# Altium integrated library Silicon Labs Capacitive Touch Sense MCUs.IntLib: 96 symbols (part 2 of 5)
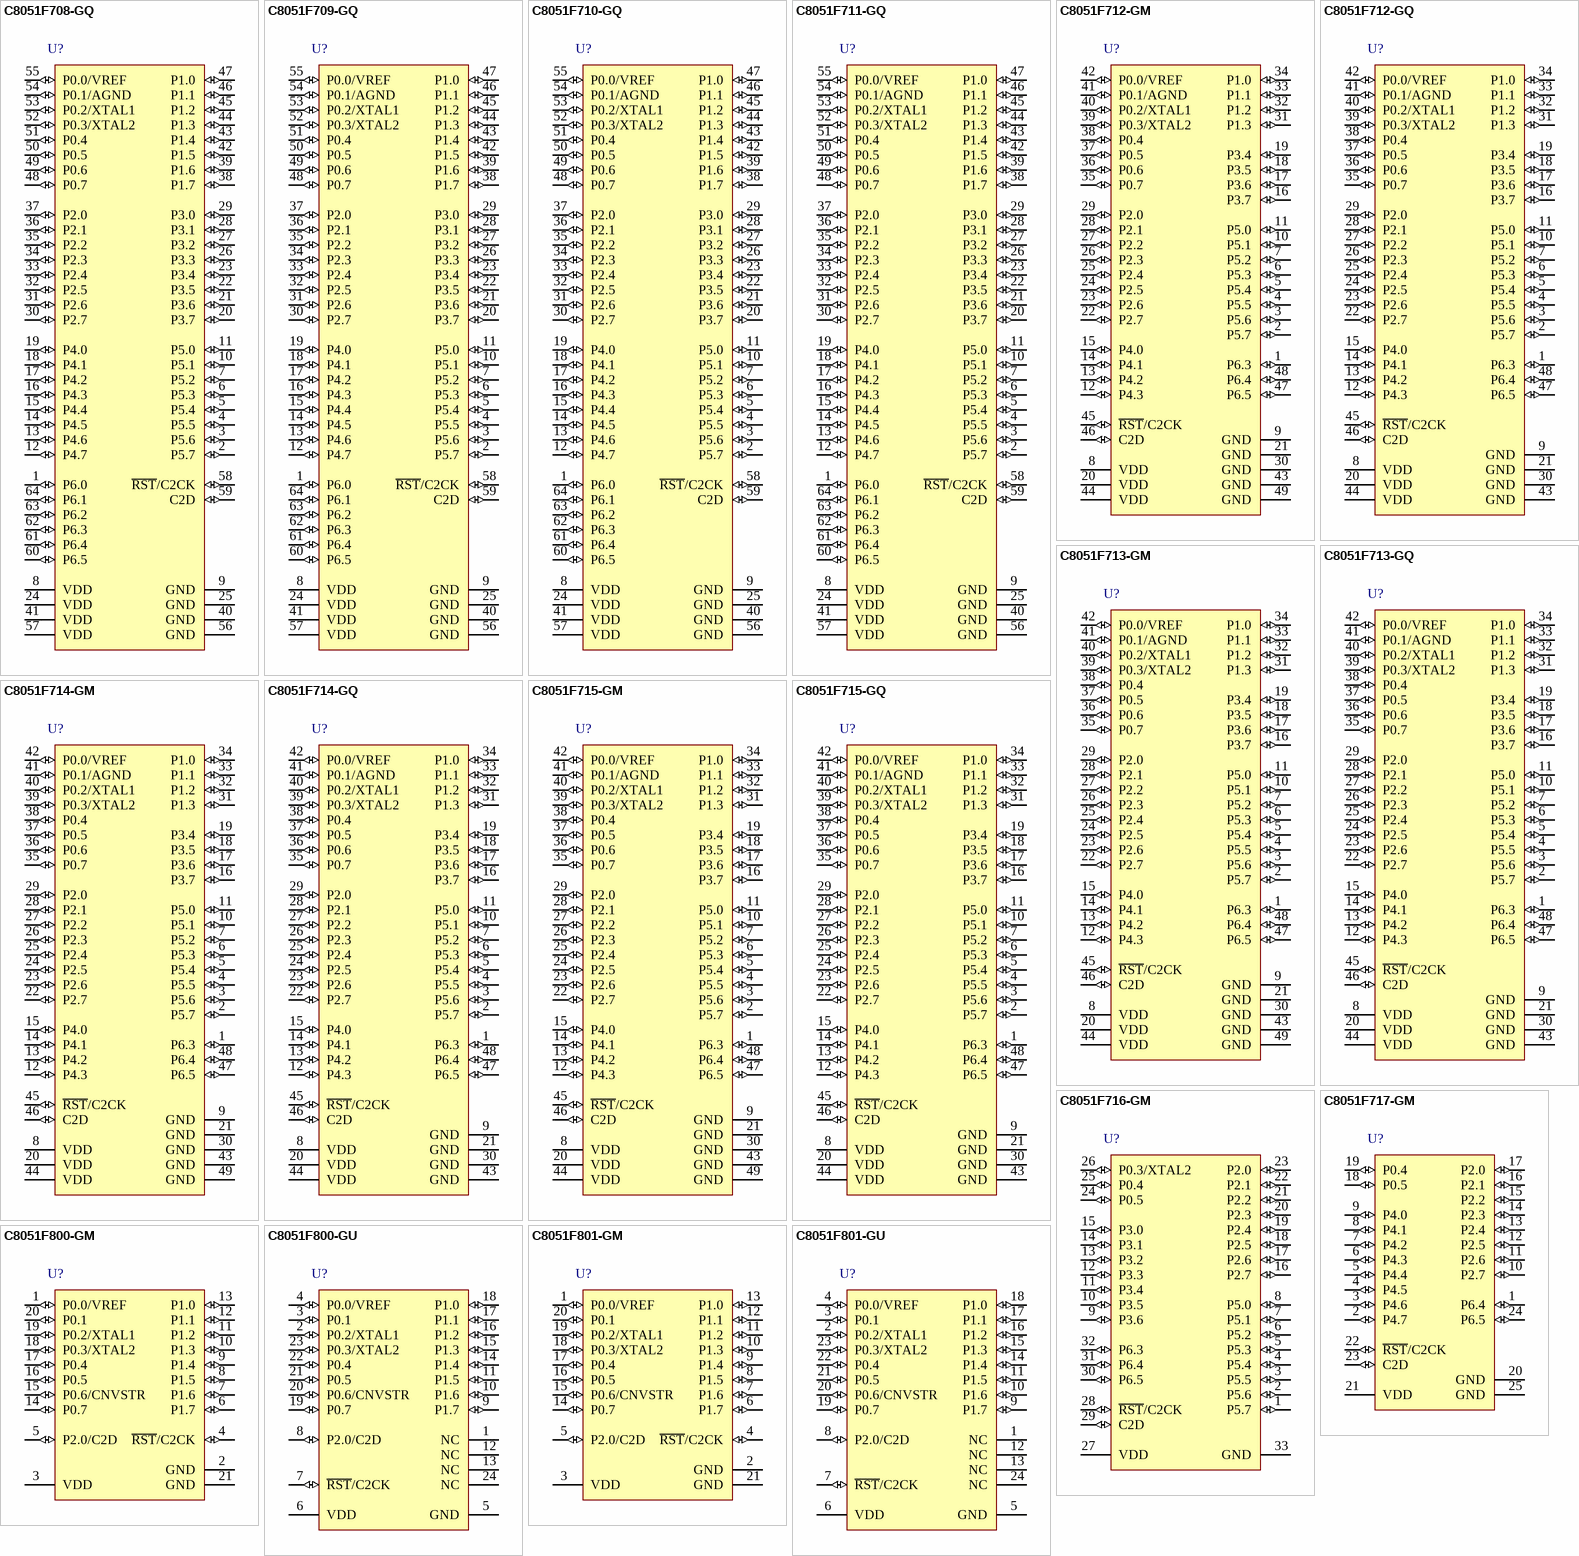
[diagram p7: symbols C8051F708-GQ to C8051F801-GU]

## C8051F710-GQ
designator U?
Mixed Signal ISP Flash MCU Family, 25 MHz, 0.5 kB RAM, 8 kB Flash, -40 to 85 degC, 64-pin QFP; Manufacturer: Silicon Labs; PartNumber: C8051F710-GQ; ADC 1: 10-bit, 16-ch., 500 ksps; Comparators: 1; Debug Interface: C2; Dig I/O Pins: 54; Flash: 8 kB; Internal Osc. Accuracy: +/-2%; MCU Core: 8051; MHz: 25; PCA Channels: 3; RAM: 0.5 kB; Temp Sensor: TRUE; Timers (16-bit): 4; Sub-Family: Capacitive Touch Sense MCUs; DatasheetVersion: Rev. 1.0; PackageReference: TQFP-64; PackageDescription: 64-Pin Thin Quad Flat Package, Body 10 x 10 mm, Pitch 0.5 mm; Supplier 1: Digi-Key; Supplier Part Number 1: 336-1641-ND; Supplier 2: Mouser; Supplier Part Number 2: 634-C8051F710-GQ; Mounting Technology: Surface Mount; Code_JEDEC: MS-026; Code_IPC: J-STD-020; ComponentLink1Description: Manufacturer URL; ComponentLink1URL: http://www.silabs.com/; ComponentLink2Description: Datasheet; ComponentLink2URL: http://www.silabs.com/Support Documents/TechnicalDocs/C8051F70x.pdf; ComponentLink3Description: Package Specification; ComponentLink3URL: http://www.silabs.com/Support%20Documents/TechnicalDocs/C8051F70x.pdf
footprint SLAB-TQFP-64_N (QFP, 64-Leads, Body 10x10mm, Pitch 0.5mm, IPC Medium Density)
footprint SLAB-TQFP-64_L (QFP, 64-Leads, Body 10x10mm, Pitch 0.5mm, IPC High Density)
footprint SLAB-TQFP-64_M (QFP, 64-Leads, Body 10x10mm, Pitch 0.5mm, IPC Low Density)
pins: 1 P6.0 (io) "Port 6.0. CS0 input pin 33.", 2 P5.7 (io) "Port 5.7. CS0 input pin 32.", 3 P5.6 (io) "Port 5.6. CS0 input pin 31.", 4 P5.5 (io) "Port 5.5. CS0 input pin 30.", 5 P5.4 (io) "Port 5.4. CS0 input pin 29.", 6 P5.3 (io) "Port 5.3. CS0 input pin 28.", 7 P5.2 (io) "Port 5.2. CS0 input pin 27", 8 VDD (power) "Power Supply Voltage", 9 GND (power) "Ground.", 10 P5.1 (io) "Port 5.0. CS0 input pin 26.", 11 P5.0 (io) "Port 5.0. CS0 input pin 25.", 12 P4.7 (io) "Port 4.7. CS0 input pin 24.", 13 P4.6 (io) "Port 4.6. CS0 input pin 23.", 14 P4.5 (io) "Port 4.5. CS0 input pin 22.", 15 P4.4 (io) "Port 4.4. CS0 input pin 21.", 16 P4.3 (io) "Port 4.3. CS0 input pin 20.", 17 P4.2 (io) "Port 4.2. CS0 input pin 19.", 18 P4.1 (io) "Port 4.1. CS0 input pin 18.", 19 P4.0 (io) "Port 4.0. CS0 input pin 17.", 20 P3.7 (io) "Port 3.7. CS0 input pin 16.", 21 P3.6 (io) "Port 3.6. CS0 input pin 15.", 22 P3.5 (io) "Port 3.5. CS0 input pin 14.", 23 P3.4 (io) "Port 3.4. CS0 input pin 13.", 24 VDD (power) "Power Supply Voltage", 25 GND (power) "Ground.", 26 P3.3 (io) "Port 3.3. CS0 input pin 12.", 27 P3.2 (io) "Port 3.2. CS0 input pin 11.", 28 P3.1 (io) "Port 3.1. CS0 input pin 10.", 29 P3.0 (io) "Port 3.0. CS0 input pin 9.", 30 P2.7 (io) "Port 2.7. CS0 input pin 8.", 31 P2.6 (io) "Port 2.6. CS0 input pin 7.", 32 P2.5 (io) "Port 2.5. CS0 input pin 6.", 33 P2.4 (io) "Port 2.4. CS0 input pin 5.", 34 P2.3 (io) "Port 2.3. CS0 input pin 4.", 35 P2.2 (io) "Port 2.2. CS0 input pin 3.", 36 P2.1 (io) "Port 2.1. CS0 input pin 2.", 37 P2.0 (io) "Port 2.0. CS0 input pin 1.", 38 P1.7 (io) "Port 1.7. ADC0 Input.", 39 P1.6 (io) "Port 1.6. ADC0 Input.", 40 GND (power) "Ground.", 41 VDD (power) "Power Supply Voltage", 42 P1.5 (io) "Port 1.5. ADC0 Input.", 43 P1.4 (io) "Port 1.4. ADC0 Input.", 44 P1.3 (io) "Port 1.3. ADC0 Input.", 45 P1.2 (io) "Port 1.2. ADC0 Input.", 46 P1.1 (io) "Port 1.1. ADC0 Input.", 47 P1.0 (io) "Port 1.0. ADC0 Input.", 48 P0.7 (io) "Port 0.7. ADC0 Input.", 49 P0.6 (io) "Port 0.6. ADC0 Input.", 50 P0.5 (io) "Port 0.5. ADC0 Input.", 51 P0.4 (io) "Port 0.4. ADC0 Input.", 52 P0.3/XTAL2 (io), 53 P0.2/XTAL1 (io), 54 P0.1/AGND (io), 55 P0.0/VREF (io), 56 GND (power) "Ground.", 57 VDD (power) "Power Supply Voltage", 58 ~{RST}/C2CK (io), 59 C2D (io) "Bi-directional data signal for the C2 Debug Interface.", 60 P6.5 (io) "Port 6.5. CS0 input pin 38.", 61 P6.4 (io) "Port 6.4. CS0 input pin 37.", 62 P6.3 (io) "Port 6.3. CS0 input pin 36.", 63 P6.2 (io) "Port 6.2. CS0 input pin 35.", 64 P6.1 (io) "Port 6.1. CS0 input pin 34."

## C8051F711-GQ
designator U?
Mixed Signal ISP Flash MCU Family, 25 MHz, 0.5 kB RAM, 8 kB Flash, -40 to 85 degC, 64-pin QFP; Manufacturer: Silicon Labs; PartNumber: C8051F711-GQ; Comparators: 1; Debug Interface: C2; Dig I/O Pins: 54; Flash: 8 kB; Internal Osc. Accuracy: +/-2%; MCU Core: 8051; MHz: 25; PCA Channels: 3; RAM: 0.5 kB; Temp Sensor: FALSE; Timers (16-bit): 4; Sub-Family: Capacitive Touch Sense MCUs; DatasheetVersion: Rev. 1.0; PackageReference: TQFP-64; PackageDescription: 64-Pin Thin Quad Flat Package, Body 10 x 10 mm, Pitch 0.5 mm; Supplier 1: Digi-Key; Supplier Part Number 1: 336-1642-ND; Supplier 2: Mouser; Supplier Part Number 2: 634-C8051F711-GQ; Mounting Technology: Surface Mount; Code_JEDEC: MS-026; Code_IPC: J-STD-020; ComponentLink1Description: Manufacturer URL; ComponentLink1URL: http://www.silabs.com/; ComponentLink2Description: Datasheet; ComponentLink2URL: http://www.silabs.com/Support Documents/TechnicalDocs/C8051F70x.pdf; ComponentLink3Description: Package Specification; ComponentLink3URL: http://www.silabs.com/Support%20Documents/TechnicalDocs/C8051F70x.pdf
footprint SLAB-TQFP-64_N (QFP, 64-Leads, Body 10x10mm, Pitch 0.5mm, IPC Medium Density)
footprint SLAB-TQFP-64_L (QFP, 64-Leads, Body 10x10mm, Pitch 0.5mm, IPC High Density)
footprint SLAB-TQFP-64_M (QFP, 64-Leads, Body 10x10mm, Pitch 0.5mm, IPC Low Density)
pins: 1 P6.0 (io) "Port 6.0. CS0 input pin 33.", 2 P5.7 (io) "Port 5.7. CS0 input pin 32.", 3 P5.6 (io) "Port 5.6. CS0 input pin 31.", 4 P5.5 (io) "Port 5.5. CS0 input pin 30.", 5 P5.4 (io) "Port 5.4. CS0 input pin 29.", 6 P5.3 (io) "Port 5.3. CS0 input pin 28.", 7 P5.2 (io) "Port 5.2. CS0 input pin 27", 8 VDD (power) "Power Supply Voltage", 9 GND (power) "Ground.", 10 P5.1 (io) "Port 5.0. CS0 input pin 26.", 11 P5.0 (io) "Port 5.0. CS0 input pin 25.", 12 P4.7 (io) "Port 4.7. CS0 input pin 24.", 13 P4.6 (io) "Port 4.6. CS0 input pin 23.", 14 P4.5 (io) "Port 4.5. CS0 input pin 22.", 15 P4.4 (io) "Port 4.4. CS0 input pin 21.", 16 P4.3 (io) "Port 4.3. CS0 input pin 20.", 17 P4.2 (io) "Port 4.2. CS0 input pin 19.", 18 P4.1 (io) "Port 4.1. CS0 input pin 18.", 19 P4.0 (io) "Port 4.0. CS0 input pin 17.", 20 P3.7 (io) "Port 3.7. CS0 input pin 16.", 21 P3.6 (io) "Port 3.6. CS0 input pin 15.", 22 P3.5 (io) "Port 3.5. CS0 input pin 14.", 23 P3.4 (io) "Port 3.4. CS0 input pin 13.", 24 VDD (power) "Power Supply Voltage", 25 GND (power) "Ground.", 26 P3.3 (io) "Port 3.3. CS0 input pin 12.", 27 P3.2 (io) "Port 3.2. CS0 input pin 11.", 28 P3.1 (io) "Port 3.1. CS0 input pin 10.", 29 P3.0 (io) "Port 3.0. CS0 input pin 9.", 30 P2.7 (io) "Port 2.7. CS0 input pin 8.", 31 P2.6 (io) "Port 2.6. CS0 input pin 7.", 32 P2.5 (io) "Port 2.5. CS0 input pin 6.", 33 P2.4 (io) "Port 2.4. CS0 input pin 5.", 34 P2.3 (io) "Port 2.3. CS0 input pin 4.", 35 P2.2 (io) "Port 2.2. CS0 input pin 3.", 36 P2.1 (io) "Port 2.1. CS0 input pin 2.", 37 P2.0 (io) "Port 2.0. CS0 input pin 1.", 38 P1.7 (io) "Port 1.7. ADC0 Input.", 39 P1.6 (io) "Port 1.6. ADC0 Input.", 40 GND (power) "Ground.", 41 VDD (power) "Power Supply Voltage", 42 P1.5 (io) "Port 1.5. ADC0 Input.", 43 P1.4 (io) "Port 1.4. ADC0 Input.", 44 P1.3 (io) "Port 1.3. ADC0 Input.", 45 P1.2 (io) "Port 1.2. ADC0 Input.", 46 P1.1 (io) "Port 1.1. ADC0 Input.", 47 P1.0 (io) "Port 1.0. ADC0 Input.", 48 P0.7 (io) "Port 0.7. ADC0 Input.", 49 P0.6 (io) "Port 0.6. ADC0 Input.", 50 P0.5 (io) "Port 0.5. ADC0 Input.", 51 P0.4 (io) "Port 0.4. ADC0 Input.", 52 P0.3/XTAL2 (io), 53 P0.2/XTAL1 (io), 54 P0.1/AGND (io), 55 P0.0/VREF (io), 56 GND (power) "Ground.", 57 VDD (power) "Power Supply Voltage", 58 ~{RST}/C2CK (io), 59 C2D (io) "Bi-directional data signal for the C2 Debug Interface.", 60 P6.5 (io) "Port 6.5. CS0 input pin 38.", 61 P6.4 (io) "Port 6.4. CS0 input pin 37.", 62 P6.3 (io) "Port 6.3. CS0 input pin 36.", 63 P6.2 (io) "Port 6.2. CS0 input pin 35.", 64 P6.1 (io) "Port 6.1. CS0 input pin 34."

## C8051F712-GM
designator U?
Mixed Signal ISP Flash MCU Family, 25 MHz, 0.5 kB RAM, 8 kB Flash, -40 to 85 degC, 48-pin QFN; Manufacturer: Silicon Labs; PartNumber: C8051F712-GM; ADC 1: 10-bit, 12-ch., 500 ksps; Comparators: 1; Debug Interface: C2; Dig I/O Pins: 39; Flash: 8 kB; Internal Osc. Accuracy: +/-2%; MCU Core: 8051; MHz: 25; PCA Channels: 3; RAM: 0.5 kB; Temp Sensor: TRUE; Timers (16-bit): 4; Sub-Family: Capacitive Touch Sense MCUs; DatasheetVersion: Rev. 1.0; PackageReference: QFN-48; PackageDescription: 48-Pin Quad-Flat No-Leads Package, Body 7 x 7 mm, Pitch 0.5 mm; Supplier 1: Digi-Key; Supplier Part Number 1: 336-1643-5-ND; Supplier 2: Mouser; Supplier Part Number 2: 634-C8051F712-GM; Mounting Technology: Surface Mount; Code_JEDEC: MO-220; Code_IPC: J-STD-020; ComponentLink1Description: Manufacturer URL; ComponentLink1URL: http://www.silabs.com/; ComponentLink2Description: Datasheet; ComponentLink2URL: http://www.silabs.com/Support Documents/TechnicalDocs/C8051F70x.pdf; ComponentLink3Description: Package Specification; ComponentLink3URL: http://www.silabs.com/Support%20Documents/TechnicalDocs/C8051F50x-51x.pdf
footprint SLAB-QFN-48-4000x4000TP_N (QFN, 48-Leads, Body 7x7mm, Pitch 0.5mm, Thermal Pad 4x4mm, IPC Medium Density)
footprint SLAB-QFN-48-4000x4000TP_L (QFN, 48-Leads, Body 7x7mm, Pitch 0.5mm, Thermal Pad 4x4mm, IPC High Density)
footprint SLAB-QFN-48-4000x4000TP_M (QFN, 48-Leads, Body 7x7mm, Pitch 0.5mm, Thermal Pad 4x4mm, IPC Low Density)
pins: 1 P6.3 (io) "Port 6.3.CS0 input pin 36.", 2 P5.7 (io) "Port 5.7.CS0 input pin 32.", 3 P5.6 (io) "Port 5.6.CS0 input pin 31.", 4 P5.5 (io) "Port 5.5.CS0 input pin 30.", 5 P5.4 (io) "Port 5.4.CS0 input pin 29.", 6 P5.3 (io) "Port 5.3.CS0 input pin 28.", 7 P5.2 (io) "Port 5.2.CS0 input pin 27", 8 VDD (power) "Power Supply Voltage.", 9 GND (power) "Ground.", 10 P5.1 (io) "Port 5.1.CS0 input pin 26.", 11 P5.0 (io) "Port 5.0.CS0 input pin 25.", 12 P4.3 (io) "Port 4.3.CS0 input pin 20.", 13 P4.2 (io) "Port 4.2.CS0 input pin 19.", 14 P4.1 (io) "Port 4.1.CS0 input pin 18.", 15 P4.0 (io) "Port 4.0.CS0 input pin 17.", 16 P3.7 (io) "Port 3.7.CS0 input pin 16.", 17 P3.6 (io) "Port 3.6.CS0 input pin 15.", 18 P3.5 (io) "Port 3.5.CS0 input pin 14.", 19 P3.4 (io) "Port 3.4.CS0 input pin 13.", 20 VDD (power) "Power Supply Voltage.", 21 GND (power) "Ground.", 22 P2.7 (io) "Port 2.7.CS0 input pin 8.", 23 P2.6 (io) "Port 2.6.CS0 input pin 7.", 24 P2.5 (io) "Port 2.5.CS0 input pin 6.", 25 P2.4 (io) "Port 2.4.CS0 input pin 5.", 26 P2.3 (io) "Port 2.3.CS0 input pin 4.", 27 P2.2 (io) "Port 2.2.CS0 input pin 3.", 28 P2.1 (io) "Port 2.1.CS0 input pin 2.", 29 P2.0 (io) "Port 2.0.CS0 input pin 1.", 30 GND (power) "Ground.", 31 P1.3 (io) "Port 1.3.ADC0 Input.", 32 P1.2 (io) "Port 1.2.ADC0 Input.", 33 P1.1 (io) "Port 1.1.ADC0 Input.", 34 P1.0 (io) "Port 1.0.ADC0 Input.", 35 P0.7 (io) "Port 0.7.ADC0 Input.", 36 P0.6 (io) "Port 0.6.ADC0 Input.", 37 P0.5 (io) "Port 0.5.ADC0 Input.", 38 P0.4 (io) "Port 0.4.ADC0 Input.", 39 P0.3/XTAL2 (io), 40 P0.2/XTAL1 (io), 41 P0.1/AGND (io), 42 P0.0/VREF (io), 43 GND (power) "Ground.", 44 VDD (power) "Power Supply Voltage.", 45 ~{RST}/C2CK (io), 46 C2D (io) "Bi-directional data signal for the C2 Debug Interface.", 47 P6.5 (io) "Port 6.5.CS0 input pin 38.", 48 P6.4 (io) "Port 6.4.CS0 input pin 37.", 49 GND (power) "Ground."

## C8051F712-GQ
designator U?
Mixed Signal ISP Flash MCU Family, 25 MHz, 0.5 kB RAM, 8 kB Flash, -40 to 85 degC, 48-pin QFP; Manufacturer: Silicon Labs; PartNumber: C8051F712-GQ; ADC 1: 10-bit, 12-ch., 500 ksps; Comparators: 1; Debug Interface: C2; Dig I/O Pins: 39; Flash: 8 kB; Internal Osc. Accuracy: +/-2%; MCU Core: 8051; MHz: 25; PCA Channels: 3; RAM: 0.5 kB; Temp Sensor: TRUE; Timers (16-bit): 4; Sub-Family: Capacitive Touch Sense MCUs; DatasheetVersion: Rev. 1.0; PackageReference: TQFP-48; PackageDescription: 48-pin TQFP, Body 7 x 7 mm, Pitch 0.5 mm; Supplier 1: Digi-Key; Supplier Part Number 1: 336-1644-ND; Supplier 2: Mouser; Supplier Part Number 2: 634-C8051F712-GQ; Mounting Technology: Surface Mount; Code_JEDEC: MS-026; Code_IPC: J-STD-020; ComponentLink1Description: Manufacturer URL; ComponentLink1URL: http://www.silabs.com/; ComponentLink2Description: Datasheet; ComponentLink2URL: http://www.silabs.com/Support Documents/TechnicalDocs/C8051F70x.pdf; ComponentLink3Description: Package Specification; ComponentLink3URL: http://www.silabs.com/Support%20Documents/TechnicalDocs/CP2200.pdf
footprint SLAB-TQFP-48_N (QFP, 48-Leads, Body 7x7mm, Pitch 0.5mm, IPC Medium Density)
footprint SLAB-TQFP-48_L (QFP, 48-Leads, Body 7x7mm, Pitch 0.5mm, IPC High Density)
footprint SLAB-TQFP-48_M (QFP, 48-Leads, Body 7x7mm, Pitch 0.5mm, IPC Low Density)
pins: 1 P6.3 (io) "Port 6.3.", 2 P5.7 (io) "Port 5.7.", 3 P5.6 (io) "Port 5.6.", 4 P5.5 (io) "Port 5.5.", 5 P5.4 (io) "Port 5.4.", 6 P5.3 (io) "Port 5.3.", 7 P5.2 (io) "Port 5.2.", 8 VDD (power) "Power Supply Voltage.", 9 GND (power) "Ground.", 10 P5.1 (io) "Port 5.1.", 11 P5.0 (io) "Port 5.0.", 12 P4.3 (io) "Port 4.3.", 13 P4.2 (io) "Port 4.2.", 14 P4.1 (io) "Port 4.1.", 15 P4.0 (io) "Port 4.0.", 16 P3.7 (io) "Port 3.7.", 17 P3.6 (io) "Port 3.6.", 18 P3.5 (io) "Port 3.5.", 19 P3.4 (io) "Port 3.4.", 20 VDD (power) "Power Supply Voltage.", 21 GND (power) "Ground.", 22 P2.7 (io) "Port 2.7.", 23 P2.6 (io) "Port 2.6.", 24 P2.5 (io) "Port 2.5.", 25 P2.4 (io) "Port 2.4.", 26 P2.3 (io) "Port 2.3.", 27 P2.2 (io) "Port 2.2.", 28 P2.1 (io) "Port 2.1.", 29 P2.0 (io) "Port 2.0.", 30 GND (power) "Ground.", 31 P1.3 (io) "Port 1.3.", 32 P1.2 (io) "Port 1.2.", 33 P1.1 (io) "Port 1.1.", 34 P1.0 (io) "Port 1.0.", 35 P0.7 (io) "Port 0.7.", 36 P0.6 (io) "Port 0.6.", 37 P0.5 (io) "Port 0.5.", 38 P0.4 (io) "Port 0.4.", 39 P0.3/XTAL2 (io), 40 P0.2/XTAL1 (io), 41 P0.1/AGND (io), 42 P0.0/VREF (io), 43 GND (power) "Ground.", 44 VDD (power) "Power Supply Voltage.", 45 ~{RST}/C2CK (io), 46 C2D (io) "Bi-directional data signal for the C2 Debug Interface.", 47 P6.5 (io) "Port 6.5.", 48 P6.4 (io) "Port 6.4."

## C8051F713-GM
designator U?
Mixed Signal ISP Flash MCU Family, 25 MHz, 0.5 kB RAM, 8 kB Flash, -40 to 85 degC, 48-pin QFN; Manufacturer: Silicon Labs; PartNumber: C8051F713-GM; Comparators: 1; Debug Interface: C2; Dig I/O Pins: 39; Flash: 8 kB; Internal Osc. Accuracy: +/-2%; MCU Core: 8051; MHz: 25; PCA Channels: 3; RAM: 0.5 kB; Temp Sensor: FALSE; Timers (16-bit): 4; Sub-Family: Capacitive Touch Sense MCUs; DatasheetVersion: Rev. 1.0; PackageReference: QFN-48; PackageDescription: 48-Pin Quad-Flat No-Leads Package, Body 7 x 7 mm, Pitch 0.5 mm; Supplier 1: Digi-Key; Supplier Part Number 1: 336-1614-5-ND; Supplier 2: Mouser; Supplier Part Number 2: 634-C8051F713-GM; Mounting Technology: Surface Mount; Code_JEDEC: MO-220; Code_IPC: J-STD-020; ComponentLink1Description: Manufacturer URL; ComponentLink1URL: http://www.silabs.com/; ComponentLink2Description: Datasheet; ComponentLink2URL: http://www.silabs.com/Support Documents/TechnicalDocs/C8051F70x.pdf; ComponentLink3Description: Package Specification; ComponentLink3URL: http://www.silabs.com/Support%20Documents/TechnicalDocs/C8051F50x-51x.pdf
footprint SLAB-QFN-48-4000x4000TP_N (QFN, 48-Leads, Body 7x7mm, Pitch 0.5mm, Thermal Pad 4x4mm, IPC Medium Density)
footprint SLAB-QFN-48-4000x4000TP_L (QFN, 48-Leads, Body 7x7mm, Pitch 0.5mm, Thermal Pad 4x4mm, IPC High Density)
footprint SLAB-QFN-48-4000x4000TP_M (QFN, 48-Leads, Body 7x7mm, Pitch 0.5mm, Thermal Pad 4x4mm, IPC Low Density)
pins: 1 P6.3 (io) "Port 6.3.CS0 input pin 36.", 2 P5.7 (io) "Port 5.7.CS0 input pin 32.", 3 P5.6 (io) "Port 5.6.CS0 input pin 31.", 4 P5.5 (io) "Port 5.5.CS0 input pin 30.", 5 P5.4 (io) "Port 5.4.CS0 input pin 29.", 6 P5.3 (io) "Port 5.3.CS0 input pin 28.", 7 P5.2 (io) "Port 5.2.CS0 input pin 27", 8 VDD (power) "Power Supply Voltage.", 9 GND (power) "Ground.", 10 P5.1 (io) "Port 5.1.CS0 input pin 26.", 11 P5.0 (io) "Port 5.0.CS0 input pin 25.", 12 P4.3 (io) "Port 4.3.CS0 input pin 20.", 13 P4.2 (io) "Port 4.2.CS0 input pin 19.", 14 P4.1 (io) "Port 4.1.CS0 input pin 18.", 15 P4.0 (io) "Port 4.0.CS0 input pin 17.", 16 P3.7 (io) "Port 3.7.CS0 input pin 16.", 17 P3.6 (io) "Port 3.6.CS0 input pin 15.", 18 P3.5 (io) "Port 3.5.CS0 input pin 14.", 19 P3.4 (io) "Port 3.4.CS0 input pin 13.", 20 VDD (power) "Power Supply Voltage.", 21 GND (power) "Ground.", 22 P2.7 (io) "Port 2.7.CS0 input pin 8.", 23 P2.6 (io) "Port 2.6.CS0 input pin 7.", 24 P2.5 (io) "Port 2.5.CS0 input pin 6.", 25 P2.4 (io) "Port 2.4.CS0 input pin 5.", 26 P2.3 (io) "Port 2.3.CS0 input pin 4.", 27 P2.2 (io) "Port 2.2.CS0 input pin 3.", 28 P2.1 (io) "Port 2.1.CS0 input pin 2.", 29 P2.0 (io) "Port 2.0.CS0 input pin 1.", 30 GND (power) "Ground.", 31 P1.3 (io) "Port 1.3.ADC0 Input.", 32 P1.2 (io) "Port 1.2.ADC0 Input.", 33 P1.1 (io) "Port 1.1.ADC0 Input.", 34 P1.0 (io) "Port 1.0.ADC0 Input.", 35 P0.7 (io) "Port 0.7.ADC0 Input.", 36 P0.6 (io) "Port 0.6.ADC0 Input.", 37 P0.5 (io) "Port 0.5.ADC0 Input.", 38 P0.4 (io) "Port 0.4.ADC0 Input.", 39 P0.3/XTAL2 (io), 40 P0.2/XTAL1 (io), 41 P0.1/AGND (io), 42 P0.0/VREF (io), 43 GND (power) "Ground.", 44 VDD (power) "Power Supply Voltage.", 45 ~{RST}/C2CK (io), 46 C2D (io) "Bi-directional data signal for the C2 Debug Interface.", 47 P6.5 (io) "Port 6.5.CS0 input pin 38.", 48 P6.4 (io) "Port 6.4.CS0 input pin 37.", 49 GND (power) "Ground."

## C8051F713-GQ
designator U?
Mixed Signal ISP Flash MCU Family, 25 MHz, 0.5 kB RAM, 8 kB Flash, -40 to 85 degC, 48-pin QFP; Manufacturer: Silicon Labs; PartNumber: C8051F713-GQ; Comparators: 1; Debug Interface: C2; Dig I/O Pins: 39; Flash: 8 kB; Internal Osc. Accuracy: +/-2%; MCU Core: 8051; MHz: 25; PCA Channels: 3; RAM: 0.5 kB; Temp Sensor: FALSE; Timers (16-bit): 4; Sub-Family: Capacitive Touch Sense MCUs; DatasheetVersion: Rev. 1.0; PackageReference: TQFP-48; PackageDescription: 48-pin TQFP, Body 7 x 7 mm, Pitch 0.5 mm; Supplier 1: Digi-Key; Supplier Part Number 1: 336-1615-ND; Supplier 2: Mouser; Supplier Part Number 2: 634-C8051F713-GQ; Mounting Technology: Surface Mount; Code_JEDEC: MS-026; Code_IPC: J-STD-020; ComponentLink1Description: Manufacturer URL; ComponentLink1URL: http://www.silabs.com/; ComponentLink2Description: Datasheet; ComponentLink2URL: http://www.silabs.com/Support Documents/TechnicalDocs/C8051F70x.pdf; ComponentLink3Description: Package Specification; ComponentLink3URL: http://www.silabs.com/Support%20Documents/TechnicalDocs/CP2200.pdf
footprint SLAB-TQFP-48_N (QFP, 48-Leads, Body 7x7mm, Pitch 0.5mm, IPC Medium Density)
footprint SLAB-TQFP-48_L (QFP, 48-Leads, Body 7x7mm, Pitch 0.5mm, IPC High Density)
footprint SLAB-TQFP-48_M (QFP, 48-Leads, Body 7x7mm, Pitch 0.5mm, IPC Low Density)
pins: 1 P6.3 (io) "Port 6.3.", 2 P5.7 (io) "Port 5.7.", 3 P5.6 (io) "Port 5.6.", 4 P5.5 (io) "Port 5.5.", 5 P5.4 (io) "Port 5.4.", 6 P5.3 (io) "Port 5.3.", 7 P5.2 (io) "Port 5.2.", 8 VDD (power) "Power Supply Voltage.", 9 GND (power) "Ground.", 10 P5.1 (io) "Port 5.1.", 11 P5.0 (io) "Port 5.0.", 12 P4.3 (io) "Port 4.3.", 13 P4.2 (io) "Port 4.2.", 14 P4.1 (io) "Port 4.1.", 15 P4.0 (io) "Port 4.0.", 16 P3.7 (io) "Port 3.7.", 17 P3.6 (io) "Port 3.6.", 18 P3.5 (io) "Port 3.5.", 19 P3.4 (io) "Port 3.4.", 20 VDD (power) "Power Supply Voltage.", 21 GND (power) "Ground.", 22 P2.7 (io) "Port 2.7.", 23 P2.6 (io) "Port 2.6.", 24 P2.5 (io) "Port 2.5.", 25 P2.4 (io) "Port 2.4.", 26 P2.3 (io) "Port 2.3.", 27 P2.2 (io) "Port 2.2.", 28 P2.1 (io) "Port 2.1.", 29 P2.0 (io) "Port 2.0.", 30 GND (power) "Ground.", 31 P1.3 (io) "Port 1.3.", 32 P1.2 (io) "Port 1.2.", 33 P1.1 (io) "Port 1.1.", 34 P1.0 (io) "Port 1.0.", 35 P0.7 (io) "Port 0.7.", 36 P0.6 (io) "Port 0.6.", 37 P0.5 (io) "Port 0.5.", 38 P0.4 (io) "Port 0.4.", 39 P0.3/XTAL2 (io), 40 P0.2/XTAL1 (io), 41 P0.1/AGND (io), 42 P0.0/VREF (io), 43 GND (power) "Ground.", 44 VDD (power) "Power Supply Voltage.", 45 ~{RST}/C2CK (io), 46 C2D (io) "Bi-directional data signal for the C2 Debug Interface.", 47 P6.5 (io) "Port 6.5.", 48 P6.4 (io) "Port 6.4."

## C8051F714-GM
designator U?
Mixed Signal ISP Flash MCU Family, 25 MHz, 0.5 kB RAM, 8 kB Flash, -40 to 85 degC, 48-pin QFN; Manufacturer: Silicon Labs; PartNumber: C8051F714-GM; ADC 1: 10-bit, 12-ch., 500 ksps; Comparators: 1; Debug Interface: C2; Dig I/O Pins: 39; Flash: 8 kB; Internal Osc. Accuracy: +/-2%; MCU Core: 8051; MHz: 25; PCA Channels: 3; RAM: 0.5 kB; Temp Sensor: TRUE; Timers (16-bit): 4; Sub-Family: Capacitive Touch Sense MCUs; DatasheetVersion: Rev. 1.0; PackageReference: QFN-48; PackageDescription: 48-Pin Quad-Flat No-Leads Package, Body 7 x 7 mm, Pitch 0.5 mm; Supplier 1: Digi-Key; Supplier Part Number 1: 336-1616-5-ND; Supplier 2: Mouser; Supplier Part Number 2: 634-C8051F714-GM; Mounting Technology: Surface Mount; Code_JEDEC: MO-220; Code_IPC: J-STD-020; ComponentLink1Description: Manufacturer URL; ComponentLink1URL: http://www.silabs.com/; ComponentLink2Description: Datasheet; ComponentLink2URL: http://www.silabs.com/Support Documents/TechnicalDocs/C8051F70x.pdf; ComponentLink3Description: Package Specification; ComponentLink3URL: http://www.silabs.com/Support%20Documents/TechnicalDocs/C8051F50x-51x.pdf
footprint SLAB-QFN-48-4000x4000TP_N (QFN, 48-Leads, Body 7x7mm, Pitch 0.5mm, Thermal Pad 4x4mm, IPC Medium Density)
footprint SLAB-QFN-48-4000x4000TP_L (QFN, 48-Leads, Body 7x7mm, Pitch 0.5mm, Thermal Pad 4x4mm, IPC High Density)
footprint SLAB-QFN-48-4000x4000TP_M (QFN, 48-Leads, Body 7x7mm, Pitch 0.5mm, Thermal Pad 4x4mm, IPC Low Density)
pins: 1 P6.3 (io) "Port 6.3.CS0 input pin 36.", 2 P5.7 (io) "Port 5.7.CS0 input pin 32.", 3 P5.6 (io) "Port 5.6.CS0 input pin 31.", 4 P5.5 (io) "Port 5.5.CS0 input pin 30.", 5 P5.4 (io) "Port 5.4.CS0 input pin 29.", 6 P5.3 (io) "Port 5.3.CS0 input pin 28.", 7 P5.2 (io) "Port 5.2.CS0 input pin 27", 8 VDD (power) "Power Supply Voltage.", 9 GND (power) "Ground.", 10 P5.1 (io) "Port 5.1.CS0 input pin 26.", 11 P5.0 (io) "Port 5.0.CS0 input pin 25.", 12 P4.3 (io) "Port 4.3.CS0 input pin 20.", 13 P4.2 (io) "Port 4.2.CS0 input pin 19.", 14 P4.1 (io) "Port 4.1.CS0 input pin 18.", 15 P4.0 (io) "Port 4.0.CS0 input pin 17.", 16 P3.7 (io) "Port 3.7.CS0 input pin 16.", 17 P3.6 (io) "Port 3.6.CS0 input pin 15.", 18 P3.5 (io) "Port 3.5.CS0 input pin 14.", 19 P3.4 (io) "Port 3.4.CS0 input pin 13.", 20 VDD (power) "Power Supply Voltage.", 21 GND (power) "Ground.", 22 P2.7 (io) "Port 2.7.CS0 input pin 8.", 23 P2.6 (io) "Port 2.6.CS0 input pin 7.", 24 P2.5 (io) "Port 2.5.CS0 input pin 6.", 25 P2.4 (io) "Port 2.4.CS0 input pin 5.", 26 P2.3 (io) "Port 2.3.CS0 input pin 4.", 27 P2.2 (io) "Port 2.2.CS0 input pin 3.", 28 P2.1 (io) "Port 2.1.CS0 input pin 2.", 29 P2.0 (io) "Port 2.0.CS0 input pin 1.", 30 GND (power) "Ground.", 31 P1.3 (io) "Port 1.3.ADC0 Input.", 32 P1.2 (io) "Port 1.2.ADC0 Input.", 33 P1.1 (io) "Port 1.1.ADC0 Input.", 34 P1.0 (io) "Port 1.0.ADC0 Input.", 35 P0.7 (io) "Port 0.7.ADC0 Input.", 36 P0.6 (io) "Port 0.6.ADC0 Input.", 37 P0.5 (io) "Port 0.5.ADC0 Input.", 38 P0.4 (io) "Port 0.4.ADC0 Input.", 39 P0.3/XTAL2 (io), 40 P0.2/XTAL1 (io), 41 P0.1/AGND (io), 42 P0.0/VREF (io), 43 GND (power) "Ground.", 44 VDD (power) "Power Supply Voltage.", 45 ~{RST}/C2CK (io), 46 C2D (io) "Bi-directional data signal for the C2 Debug Interface.", 47 P6.5 (io) "Port 6.5.CS0 input pin 38.", 48 P6.4 (io) "Port 6.4.CS0 input pin 37.", 49 GND (power) "Ground."

## C8051F714-GQ
designator U?
Mixed Signal ISP Flash MCU Family, 25 MHz, 0.5 kB RAM, 8 kB Flash, -40 to 85 degC, 48-pin QFP; Manufacturer: Silicon Labs; PartNumber: C8051F714-GQ; ADC 1: 10-bit, 12-ch., 500 ksps; Comparators: 1; Debug Interface: C2; Dig I/O Pins: 39; Flash: 8 kB; Internal Osc. Accuracy: +/-2%; MCU Core: 8051; MHz: 25; PCA Channels: 3; RAM: 0.5 kB; Temp Sensor: TRUE; Timers (16-bit): 4; Sub-Family: Capacitive Touch Sense MCUs; DatasheetVersion: Rev. 1.0; PackageReference: TQFP-48; PackageDescription: 48-pin TQFP, Body 7 x 7 mm, Pitch 0.5 mm; Supplier 1: Digi-Key; Supplier Part Number 1: 336-1617-ND; Supplier 2: Mouser; Supplier Part Number 2: 634-C8051F714-GQ; Mounting Technology: Surface Mount; Code_JEDEC: MS-026; Code_IPC: J-STD-020; ComponentLink1Description: Manufacturer URL; ComponentLink1URL: http://www.silabs.com/; ComponentLink2Description: Datasheet; ComponentLink2URL: http://www.silabs.com/Support Documents/TechnicalDocs/C8051F70x.pdf; ComponentLink3Description: Package Specification; ComponentLink3URL: http://www.silabs.com/Support%20Documents/TechnicalDocs/CP2200.pdf
footprint SLAB-TQFP-48_N (QFP, 48-Leads, Body 7x7mm, Pitch 0.5mm, IPC Medium Density)
footprint SLAB-TQFP-48_L (QFP, 48-Leads, Body 7x7mm, Pitch 0.5mm, IPC High Density)
footprint SLAB-TQFP-48_M (QFP, 48-Leads, Body 7x7mm, Pitch 0.5mm, IPC Low Density)
pins: 1 P6.3 (io) "Port 6.3.", 2 P5.7 (io) "Port 5.7.", 3 P5.6 (io) "Port 5.6.", 4 P5.5 (io) "Port 5.5.", 5 P5.4 (io) "Port 5.4.", 6 P5.3 (io) "Port 5.3.", 7 P5.2 (io) "Port 5.2.", 8 VDD (power) "Power Supply Voltage.", 9 GND (power) "Ground.", 10 P5.1 (io) "Port 5.1.", 11 P5.0 (io) "Port 5.0.", 12 P4.3 (io) "Port 4.3.", 13 P4.2 (io) "Port 4.2.", 14 P4.1 (io) "Port 4.1.", 15 P4.0 (io) "Port 4.0.", 16 P3.7 (io) "Port 3.7.", 17 P3.6 (io) "Port 3.6.", 18 P3.5 (io) "Port 3.5.", 19 P3.4 (io) "Port 3.4.", 20 VDD (power) "Power Supply Voltage.", 21 GND (power) "Ground.", 22 P2.7 (io) "Port 2.7.", 23 P2.6 (io) "Port 2.6.", 24 P2.5 (io) "Port 2.5.", 25 P2.4 (io) "Port 2.4.", 26 P2.3 (io) "Port 2.3.", 27 P2.2 (io) "Port 2.2.", 28 P2.1 (io) "Port 2.1.", 29 P2.0 (io) "Port 2.0.", 30 GND (power) "Ground.", 31 P1.3 (io) "Port 1.3.", 32 P1.2 (io) "Port 1.2.", 33 P1.1 (io) "Port 1.1.", 34 P1.0 (io) "Port 1.0.", 35 P0.7 (io) "Port 0.7.", 36 P0.6 (io) "Port 0.6.", 37 P0.5 (io) "Port 0.5.", 38 P0.4 (io) "Port 0.4.", 39 P0.3/XTAL2 (io), 40 P0.2/XTAL1 (io), 41 P0.1/AGND (io), 42 P0.0/VREF (io), 43 GND (power) "Ground.", 44 VDD (power) "Power Supply Voltage.", 45 ~{RST}/C2CK (io), 46 C2D (io) "Bi-directional data signal for the C2 Debug Interface.", 47 P6.5 (io) "Port 6.5.", 48 P6.4 (io) "Port 6.4."

## C8051F715-GM
designator U?
Mixed Signal ISP Flash MCU Family, 25 MHz, 0.5 kB RAM, 8 kB Flash, -40 to 85 degC, 48-pin QFN; Manufacturer: Silicon Labs; PartNumber: C8051F715-GM; Comparators: 1; Debug Interface: C2; Dig I/O Pins: 39; Flash: 8 kB; Internal Osc. Accuracy: +/-2%; MCU Core: 8051; MHz: 25; PCA Channels: 3; RAM: 0.5 kB; Temp Sensor: FALSE; Timers (16-bit): 4; Sub-Family: Capacitive Touch Sense MCUs; DatasheetVersion: Rev. 1.0; PackageReference: QFN-48; PackageDescription: 48-Pin Quad-Flat No-Leads Package, Body 7 x 7 mm, Pitch 0.5 mm; Supplier 1: Digi-Key; Supplier Part Number 1: 336-1618-5-ND; Supplier 2: Mouser; Supplier Part Number 2: 634-C8051F715-GM; Mounting Technology: Surface Mount; Code_JEDEC: MO-220; Code_IPC: J-STD-020; ComponentLink1Description: Manufacturer URL; ComponentLink1URL: http://www.silabs.com/; ComponentLink2Description: Datasheet; ComponentLink2URL: http://www.silabs.com/Support Documents/TechnicalDocs/C8051F70x.pdf; ComponentLink3Description: Package Specification; ComponentLink3URL: http://www.silabs.com/Support%20Documents/TechnicalDocs/C8051F50x-51x.pdf
footprint SLAB-QFN-48-4000x4000TP_N (QFN, 48-Leads, Body 7x7mm, Pitch 0.5mm, Thermal Pad 4x4mm, IPC Medium Density)
footprint SLAB-QFN-48-4000x4000TP_L (QFN, 48-Leads, Body 7x7mm, Pitch 0.5mm, Thermal Pad 4x4mm, IPC High Density)
footprint SLAB-QFN-48-4000x4000TP_M (QFN, 48-Leads, Body 7x7mm, Pitch 0.5mm, Thermal Pad 4x4mm, IPC Low Density)
pins: 1 P6.3 (io) "Port 6.3.CS0 input pin 36.", 2 P5.7 (io) "Port 5.7.CS0 input pin 32.", 3 P5.6 (io) "Port 5.6.CS0 input pin 31.", 4 P5.5 (io) "Port 5.5.CS0 input pin 30.", 5 P5.4 (io) "Port 5.4.CS0 input pin 29.", 6 P5.3 (io) "Port 5.3.CS0 input pin 28.", 7 P5.2 (io) "Port 5.2.CS0 input pin 27", 8 VDD (power) "Power Supply Voltage.", 9 GND (power) "Ground.", 10 P5.1 (io) "Port 5.1.CS0 input pin 26.", 11 P5.0 (io) "Port 5.0.CS0 input pin 25.", 12 P4.3 (io) "Port 4.3.CS0 input pin 20.", 13 P4.2 (io) "Port 4.2.CS0 input pin 19.", 14 P4.1 (io) "Port 4.1.CS0 input pin 18.", 15 P4.0 (io) "Port 4.0.CS0 input pin 17.", 16 P3.7 (io) "Port 3.7.CS0 input pin 16.", 17 P3.6 (io) "Port 3.6.CS0 input pin 15.", 18 P3.5 (io) "Port 3.5.CS0 input pin 14.", 19 P3.4 (io) "Port 3.4.CS0 input pin 13.", 20 VDD (power) "Power Supply Voltage.", 21 GND (power) "Ground.", 22 P2.7 (io) "Port 2.7.CS0 input pin 8.", 23 P2.6 (io) "Port 2.6.CS0 input pin 7.", 24 P2.5 (io) "Port 2.5.CS0 input pin 6.", 25 P2.4 (io) "Port 2.4.CS0 input pin 5.", 26 P2.3 (io) "Port 2.3.CS0 input pin 4.", 27 P2.2 (io) "Port 2.2.CS0 input pin 3.", 28 P2.1 (io) "Port 2.1.CS0 input pin 2.", 29 P2.0 (io) "Port 2.0.CS0 input pin 1.", 30 GND (power) "Ground.", 31 P1.3 (io) "Port 1.3.ADC0 Input.", 32 P1.2 (io) "Port 1.2.ADC0 Input.", 33 P1.1 (io) "Port 1.1.ADC0 Input.", 34 P1.0 (io) "Port 1.0.ADC0 Input.", 35 P0.7 (io) "Port 0.7.ADC0 Input.", 36 P0.6 (io) "Port 0.6.ADC0 Input.", 37 P0.5 (io) "Port 0.5.ADC0 Input.", 38 P0.4 (io) "Port 0.4.ADC0 Input.", 39 P0.3/XTAL2 (io), 40 P0.2/XTAL1 (io), 41 P0.1/AGND (io), 42 P0.0/VREF (io), 43 GND (power) "Ground.", 44 VDD (power) "Power Supply Voltage.", 45 ~{RST}/C2CK (io), 46 C2D (io) "Bi-directional data signal for the C2 Debug Interface.", 47 P6.5 (io) "Port 6.5.CS0 input pin 38.", 48 P6.4 (io) "Port 6.4.CS0 input pin 37.", 49 GND (power) "Ground."

## C8051F715-GQ
designator U?
Mixed Signal ISP Flash MCU Family, 25 MHz, 0.5 kB RAM, 8 kB Flash, -40 to 85 degC, 48-pin QFP; Manufacturer: Silicon Labs; PartNumber: C8051F715-GQ; Comparators: 1; Debug Interface: C2; Dig I/O Pins: 39; Flash: 8 kB; Internal Osc. Accuracy: +/-2%; MCU Core: 8051; MHz: 25; PCA Channels: 3; RAM: 0.5 kB; Temp Sensor: FALSE; Timers (16-bit): 4; Sub-Family: Capacitive Touch Sense MCUs; DatasheetVersion: Rev. 1.0; PackageReference: TQFP-48; PackageDescription: 48-pin TQFP, Body 7 x 7 mm, Pitch 0.5 mm; Supplier 1: Digi-Key; Supplier Part Number 1: 336-1619-ND; Supplier 2: Mouser; Supplier Part Number 2: 634-C8051F715-GQ; Mounting Technology: Surface Mount; Code_JEDEC: MS-026; Code_IPC: J-STD-020; ComponentLink1Description: Manufacturer URL; ComponentLink1URL: http://www.silabs.com/; ComponentLink2Description: Datasheet; ComponentLink2URL: http://www.silabs.com/Support Documents/TechnicalDocs/C8051F70x.pdf; ComponentLink3Description: Package Specification; ComponentLink3URL: http://www.silabs.com/Support%20Documents/TechnicalDocs/CP2200.pdf
footprint SLAB-TQFP-48_N (QFP, 48-Leads, Body 7x7mm, Pitch 0.5mm, IPC Medium Density)
footprint SLAB-TQFP-48_L (QFP, 48-Leads, Body 7x7mm, Pitch 0.5mm, IPC High Density)
footprint SLAB-TQFP-48_M (QFP, 48-Leads, Body 7x7mm, Pitch 0.5mm, IPC Low Density)
pins: 1 P6.3 (io) "Port 6.3.", 2 P5.7 (io) "Port 5.7.", 3 P5.6 (io) "Port 5.6.", 4 P5.5 (io) "Port 5.5.", 5 P5.4 (io) "Port 5.4.", 6 P5.3 (io) "Port 5.3.", 7 P5.2 (io) "Port 5.2.", 8 VDD (power) "Power Supply Voltage.", 9 GND (power) "Ground.", 10 P5.1 (io) "Port 5.1.", 11 P5.0 (io) "Port 5.0.", 12 P4.3 (io) "Port 4.3.", 13 P4.2 (io) "Port 4.2.", 14 P4.1 (io) "Port 4.1.", 15 P4.0 (io) "Port 4.0.", 16 P3.7 (io) "Port 3.7.", 17 P3.6 (io) "Port 3.6.", 18 P3.5 (io) "Port 3.5.", 19 P3.4 (io) "Port 3.4.", 20 VDD (power) "Power Supply Voltage.", 21 GND (power) "Ground.", 22 P2.7 (io) "Port 2.7.", 23 P2.6 (io) "Port 2.6.", 24 P2.5 (io) "Port 2.5.", 25 P2.4 (io) "Port 2.4.", 26 P2.3 (io) "Port 2.3.", 27 P2.2 (io) "Port 2.2.", 28 P2.1 (io) "Port 2.1.", 29 P2.0 (io) "Port 2.0.", 30 GND (power) "Ground.", 31 P1.3 (io) "Port 1.3.", 32 P1.2 (io) "Port 1.2.", 33 P1.1 (io) "Port 1.1.", 34 P1.0 (io) "Port 1.0.", 35 P0.7 (io) "Port 0.7.", 36 P0.6 (io) "Port 0.6.", 37 P0.5 (io) "Port 0.5.", 38 P0.4 (io) "Port 0.4.", 39 P0.3/XTAL2 (io), 40 P0.2/XTAL1 (io), 41 P0.1/AGND (io), 42 P0.0/VREF (io), 43 GND (power) "Ground.", 44 VDD (power) "Power Supply Voltage.", 45 ~{RST}/C2CK (io), 46 C2D (io) "Bi-directional data signal for the C2 Debug Interface.", 47 P6.5 (io) "Port 6.5.", 48 P6.4 (io) "Port 6.4."

## C8051F716-GM
designator U?
Mixed Signal ISP Flash MCU Family, 25 MHz, 0.5 kB RAM, 16 kB Flash, -40 to 85 degC, 32-pin QFN; Manufacturer: Silicon Labs; PartNumber: C8051F716-GM; ADC 1: 10-bit, 3-ch., 500 ksps; Comparators: 1; Debug Interface: C2; Dig I/O Pins: 29; Flash: 16 kB; Internal Osc. Accuracy: +/-2%; MCU Core: 8051; MHz: 25; PCA Channels: 3; RAM: 0.5 kB; Temp Sensor: TRUE; Timers (16-bit): 4; Sub-Family: Capacitive Touch Sense MCUs; DatasheetVersion: Rev. 1.0; PackageReference: QFN-32; PackageDescription: 32-Pin Quad-Flat No-Leads Package, Body 5 x 5 mm, Pitch 0.5 mm; Supplier 1: Digi-Key; Supplier Part Number 1: 336-1960-5-ND; Supplier 2: Mouser; Supplier Part Number 2: 634-C8051F716-GM; Mounting Technology: Surface Mount; Code_JEDEC: MO-220; Code_IPC: J-STD-020; ComponentLink1Description: Manufacturer URL; ComponentLink1URL: http://www.silabs.com/; ComponentLink2Description: Datasheet; ComponentLink2URL: http://www.silabs.com/Support Documents/TechnicalDocs/C8051F70x.pdf; ComponentLink3Description: Package Specification; ComponentLink3URL: http://www.silabs.com/Support%20Documents/TechnicalDocs/C8051F70x.pdf
footprint SLAB-QFN-32-3600x3600TP_N (QFN, 32-Leads, Body 5x5mm, Pitch 0.5mm, Thermal Pad 3.6x3.6mm, IPC Medium Density)
footprint SLAB-QFN-32-3600x3600TP_L (QFN, 32-Leads, Body 5x5mm, Pitch 0.5mm, Thermal Pad 3.6x3.6mm, IPC High Density)
footprint SLAB-QFN-32-3600x3600TP_M (QFN, 32-Leads, Body 5x5mm, Pitch 0.5mm, Thermal Pad 3.6x3.6mm, IPC Low Density)
pins: 1 P5.7 (io) "Port 5.7. CS0 input pin 32.", 2 P5.6 (io) "Port 5.6. CS0 input pin 31.", 3 P5.5 (io) "Port 5.5. CS0 input pin 30.", 4 P5.4 (io) "Port 5.4. CS0 input pin 29.", 5 P5.3 (io) "Port 5.3. CS0 input pin 28.", 6 P5.2 (io) "Port 5.2. CS0 input pin 27", 7 P5.1 (io) "Port 5.0. CS0 input pin 26.", 8 P5.0 (io) "Port 5.0. CS0 input pin 25.", 9 P3.6 (io) "Port 3.6. CS0 input pin 15.", 10 P3.5 (io) "Port 3.5. CS0 input pin 14.", 11 P3.4 (io) "Port 3.4. CS0 input pin 13.", 12 P3.3 (io) "Port 3.3. CS0 input pin 12.", 13 P3.2 (io) "Port 3.2. CS0 input pin 11.", 14 P3.1 (io) "Port 3.1. CS0 input pin 10", 15 P3.0 (io) "Port 3.0. CS0 input pin 9.", 16 P2.7 (io) "Port 2.7. CS0 input pin 8.", 17 P2.6 (io) "Port 2.6. CS0 input pin 7.", 18 P2.5 (io) "Port 2.5. CS0 input pin 6.", 19 P2.4 (io) "Port 2.4. CS0 input pin 5.", 20 P2.3 (io) "Port 2.3. CS0 input pin 4.", 21 P2.2 (io) "Port 2.2. CS0 input pin 3.", 22 P2.1 (io) "Port 2.1. CS0 input pin 2.", 23 P2.0 (io) "Port 2.0. CS0 input pin 1.", 24 P0.5 (io) "Port 0.5. ADC0 Input.", 25 P0.4 (io) "Port 0.4. ADC0 Input.", 26 P0.3/XTAL2 (io), 27 VDD (power) "Power Supply Voltage", 28 ~{RST}/C2CK (io), 29 C2D (io) "Bi-directional data signal for the C2 Debug  Interface.", 30 P6.5 (io) "Port 6.5. CS0 input pin 38.", 31 P6.4 (io) "Port 6.4. CS0 input pin 37.", 32 P6.3 (io) "Port 6.3. CS0 input pin 36.", 33 GND (power) "Ground."

## C8051F717-GM
designator U?
Mixed Signal ISP Flash MCU Family, 25 MHz, 0.5 kB RAM, 16 kB Flash, -40 to 85 degC, 24-pin QFN; Manufacturer: Silicon Labs; PartNumber: C8051F717-GM; Comparators: 1; Debug Interface: C2; Dig I/O Pins: 20; Flash: 16 kB; Internal Osc. Accuracy: +/-2%; MCU Core: 8051; MHz: 25; PCA Channels: 3; RAM: 0.5 kB; Temp Sensor: FALSE; Timers (16-bit): 4; Sub-Family: Capacitive Touch Sense MCUs; DatasheetVersion: Rev. 1.0; PackageReference: QFN-24; PackageDescription: 24-Pin Quad-Flat No-Leads Package, Body 4 x 4 mm, Pitch 0.5 mm; Supplier 1: Digi-Key; Supplier Part Number 1: 336-1961-5-ND; Supplier 2: Mouser; Supplier Part Number 2: 634-C8051F717-GM; Mounting Technology: Surface Mount; Code_JEDEC: MO-220; Code_IPC: J-STD-020; ComponentLink1Description: Manufacturer URL; ComponentLink1URL: http://www.silabs.com/; ComponentLink2Description: Datasheet; ComponentLink2URL: http://www.silabs.com/Support Documents/TechnicalDocs/C8051F70x.pdf; ComponentLink3Description: Package Specification; ComponentLink3URL: http://www.silabs.com/Support%20Documents/TechnicalDocs/C8051F93x-92x.pdf
footprint SLAB-QFN-24-2675x2675TP_N (QFN, 24-Leads, Body 4x4mm, Pitch 0.5mm, Thermal Pad 2.68x2.68mm, IPC Medium Density)
footprint SLAB-QFN-24-2675x2675TP_L (QFN, 24-Leads, Body 4x4mm, Pitch 0.5mm, Thermal Pad 2.68x2.68mm, IPC High Density)
footprint SLAB-QFN-24-2675x2675TP_M (QFN, 24-Leads, Body 4x4mm, Pitch 0.5mm, Thermal Pad 2.68x2.68mm, IPC Low Density)
pins: 1 P6.4 (io) "Port 6.4.CS0 input pin 37.", 2 P4.7 (io) "Port 4.7.CS0 input pin 24.", 3 P4.6 (io) "Port 4.6.CS0 input pin 23.", 4 P4.5 (io) "Port 4.5.CS0 input pin 22.", 5 P4.4 (io) "Port 4.4.CS0 input pin 21.", 6 P4.3 (io) "Port 4.3.CS0 input pin 20.", 7 P4.2 (io) "Port 4.2.CS0 input pin 19.", 8 P4.1 (io) "Port 4.1.CS0 input pin 18.", 9 P4.0 (io) "Port 4.0.CS0 input pin 17.", 10 P2.7 (io) "Port 2.7.CS0 input pin 8.", 11 P2.6 (io) "Port 2.6.CS0 input pin 7.", 12 P2.5 (io) "Port 2.5.CS0 input pin 6.", 13 P2.4 (io) "Port 2.4.CS0 input pin 5.", 14 P2.3 (io) "Port 2.3.CS0 input pin 4.", 15 P2.2 (io) "Port 2.2.CS0 input pin 3.", 16 P2.1 (io) "Port 2.1.CS0 input pin 2.", 17 P2.0 (io) "Port 2.0.CS0 input pin 1.", 18 P0.5 (io) "Port 0.5.ADC0 Input.", 19 P0.4 (io) "Port 0.4.ADC0 Input.", 20 GND (power) "Ground.", 21 VDD (power) "Power Supply Voltage.", 22 ~{RST}/C2CK (io), 23 C2D (io) "Bi-directional data signal for the C2 Debug Interface.", 24 P6.5 (io) "Port 6.5.CS0 input pin 38", 25 GND (power) "Ground."

## C8051F800-GM
designator U?
Mixed Signal ISP Flash MCU Family, 25 MHz, 0.5 kB RAM, 16 kB Flash, -40 to 85 degC, 20-pin QFN; Manufacturer: Silicon Labs; PartNumber: C8051F800-GM; ADC 1: 10-bit, 16-ch., 500 ksps; AEC-Q100: FALSE; Comparators: 1; Debug Interface: C2; Dig I/O Pins: 17; Flash: 16 kB; Internal Osc. Accuracy: +/-2%; MCU Core: 8051; MHz: 25; PCA Channels: 3; RAM: 0.5 kB; Temp Sensor: TRUE; Sub-Family: Capacitive Touch Sense MCUs; DatasheetVersion: Rev. 1.0; PackageReference: QFN-20; PackageDescription: 20-Pin Quad-Flat No-Leads Package, Body 4 x 4 mm, Pitch 0.5 mm; Supplier 1: Digi-Key; Supplier Part Number 1: 336-1766-5-ND; Supplier 2: Mouser; Supplier Part Number 2: 634-C8051F800-GM; Timers (16-bit): 3; Mounting Technology: Surface Mount; Code_JEDEC: MO-220; Code_IPC: J-STD-020; ComponentLink1Description: Manufacturer URL; ComponentLink1URL: http://www.silabs.com/; ComponentLink2Description: Datasheet; ComponentLink2URL: http://www.silabs.com/Support Documents/TechnicalDocs/C8051F80x-83x.pdf; ComponentLink3Description: Package Specification; ComponentLink3URL: http://www.silabs.com/Support%20Documents/TechnicalDocs/C8051F80x-83x.pdf
footprint SLAB-QFN-20-2125x2125TP_N (QFN, 20-Leads, Body 4x4mm, Pitch 0.5mm, Thermal Pad 2.13x2.13mm, IPC Medium Density)
footprint SLAB-QFN-20-2125x2125TP_L (QFN, 20-Leads, Body 4x4mm, Pitch 0.5mm, Thermal Pad 2.13x2.13mm, IPC High Density)
footprint SLAB-QFN-20-2125x2125TP_M (QFN, 20-Leads, Body 4x4mm, Pitch 0.5mm, Thermal Pad 2.13x2.13mm, IPC Low Density)
pins: 1 P0.0/VREF (io), 2 GND (power) "Ground.", 3 VDD (power) "Power Supply Voltage.", 4 ~{RST}/C2CK (io), 5 P2.0/C2D (io), 6 P1.7 (io) "Port 1.7.", 7 P1.6 (io) "Port 1.6.", 8 P1.5 (io) "Port 1.5.", 9 P1.4 (io) "Port 1.4.", 10 P1.3 (io) "Port 1.3.", 11 P1.2 (io) "Port 1.2.", 12 P1.1 (io) "Port 1.1.", 13 P1.0 (io) "Port 1.0.", 14 P0.7 (io) "Port 0.7.", 15 P0.6/CNVSTR (io), 16 P0.5 (io) "Port 0.5.", 17 P0.4 (io) "Port 0.4.", 18 P0.3/XTAL2 (io), 19 P0.2/XTAL1 (io), 20 P0.1 (io) "Port 0.1.", 21 GND (power) "This ground connection is required. The center  pad may optionally be connected to ground as  well on the QFN-20 packages."

## C8051F800-GU
designator U?
Mixed Signal ISP Flash MCU Family, 25 MHz, 0.5 kB RAM, 16 kB Flash, -40 to 85 degC, 24-pin SOP; Manufacturer: Silicon Labs; PartNumber: C8051F800-GU; ADC 1: 10-bit, 16-ch., 500 ksps; AEC-Q100: FALSE; Comparators: 1; Debug Interface: C2; Dig I/O Pins: 17; Flash: 16 kB; Internal Osc. Accuracy: +/-2%; MCU Core: 8051; MHz: 25; PCA Channels: 3; RAM: 0.5 kB; Temp Sensor: TRUE; Sub-Family: Capacitive Touch Sense MCUs; DatasheetVersion: Rev. 1.0; PackageReference: QSOP-24; PackageDescription: 24-Pin Quarter-Size Small-Outline Package, Body 8.65 x 3.9 mm, Pitch 0.635 mm; Supplier 1: Digi-Key; Supplier Part Number 1: 336-1767-5-ND; Supplier 2: Mouser; Supplier Part Number 2: 634-C8051F800-GU; Timers (16-bit): 3; Mounting Technology: Surface Mount; Code_JEDEC: MO-147; Code_IPC: J-STD-020; ComponentLink1Description: Manufacturer URL; ComponentLink1URL: http://www.silabs.com/; ComponentLink2Description: Datasheet; ComponentLink2URL: http://www.silabs.com/Support Documents/TechnicalDocs/C8051F80x-83x.pdf; ComponentLink3Description: Package Specification; ComponentLink3URL: http://www.silabs.com/Support%20Documents/TechnicalDocs/C8051F99x.pdf
footprint SLAB-QSOP-24_N (SOP, 24-Leads, Body 8.65x3.9mm, Pitch 0.635mm, IPC Medium Density)
footprint SLAB-QSOP-24_L (SOP, 24-Leads, Body 8.65x3.9mm, Pitch 0.635mm, IPC High Density)
footprint SLAB-QSOP-24_M (SOP, 24-Leads, Body 8.65x3.9mm, Pitch 0.635mm, IPC Low Density)
pins: 1 NC "No Connection.", 2 P0.2/XTAL1 (io), 3 P0.1 (io) "Port 0.1.", 4 P0.0/VREF (io), 5 GND (power) "Ground. This ground connection is required. The center pad may optionally be connected to ground as well on the QFN-20 packages.", 6 VDD (power) "Power Supply Voltage.", 7 ~{RST}/C2CK (io), 8 P2.0/C2D (io), 9 P1.7 (io) "Port 1.7.", 10 P1.6 (io) "Port 1.6.", 11 P1.5 (io) "Port 1.5.", 12 NC "No Connection.", 13 NC "No Connection.", 14 P1.4 (io) "Port 1.4.", 15 P1.3 (io) "Port 1.3.", 16 P1.2 (io) "Port 1.2.", 17 P1.1 (io) "Port 1.1.", 18 P1.0 (io) "Port 1.0.", 19 P0.7 (io) "Port 0.7.", 20 P0.6/CNVSTR (io), 21 P0.5 (io) "Port 0.5.", 22 P0.4 (io) "Port 0.4.", 23 P0.3/XTAL2 (io), 24 NC "No Connection."

## C8051F801-GM
designator U?
Mixed Signal ISP Flash MCU Family, 25 MHz, 0.5 kB RAM, 16 kB Flash, -40 to 85 degC, 20-pin QFN; Manufacturer: Silicon Labs; PartNumber: C8051F801-GM; ADC 1: 10-bit, 16-ch., 500 ksps; AEC-Q100: FALSE; Comparators: 1; Debug Interface: C2; Dig I/O Pins: 17; Flash: 16 kB; Internal Osc. Accuracy: +/-2%; MCU Core: 8051; MHz: 25; PCA Channels: 3; RAM: 0.5 kB; Temp Sensor: TRUE; Sub-Family: Capacitive Touch Sense MCUs; DatasheetVersion: Rev. 1.0; PackageReference: QFN-20; PackageDescription: 20-Pin Quad-Flat No-Leads Package, Body 4 x 4 mm, Pitch 0.5 mm; Supplier 1: Digi-Key; Supplier Part Number 1: 336-1768-5-ND; Supplier 2: Mouser; Supplier Part Number 2: 634-C8051F801-GM; Timers (16-bit): 3; Mounting Technology: Surface Mount; Code_JEDEC: MO-220; Code_IPC: J-STD-020; ComponentLink1Description: Manufacturer URL; ComponentLink1URL: http://www.silabs.com/; ComponentLink2Description: Datasheet; ComponentLink2URL: http://www.silabs.com/Support Documents/TechnicalDocs/C8051F80x-83x.pdf; ComponentLink3Description: Package Specification; ComponentLink3URL: http://www.silabs.com/Support%20Documents/TechnicalDocs/C8051F80x-83x.pdf
footprint SLAB-QFN-20-2125x2125TP_N (QFN, 20-Leads, Body 4x4mm, Pitch 0.5mm, Thermal Pad 2.13x2.13mm, IPC Medium Density)
footprint SLAB-QFN-20-2125x2125TP_L (QFN, 20-Leads, Body 4x4mm, Pitch 0.5mm, Thermal Pad 2.13x2.13mm, IPC High Density)
footprint SLAB-QFN-20-2125x2125TP_M (QFN, 20-Leads, Body 4x4mm, Pitch 0.5mm, Thermal Pad 2.13x2.13mm, IPC Low Density)
pins: 1 P0.0/VREF (io), 2 GND (power) "Ground.", 3 VDD (power) "Power Supply Voltage.", 4 ~{RST}/C2CK (io), 5 P2.0/C2D (io), 6 P1.7 (io) "Port 1.7.", 7 P1.6 (io) "Port 1.6.", 8 P1.5 (io) "Port 1.5.", 9 P1.4 (io) "Port 1.4.", 10 P1.3 (io) "Port 1.3.", 11 P1.2 (io) "Port 1.2.", 12 P1.1 (io) "Port 1.1.", 13 P1.0 (io) "Port 1.0.", 14 P0.7 (io) "Port 0.7.", 15 P0.6/CNVSTR (io), 16 P0.5 (io) "Port 0.5.", 17 P0.4 (io) "Port 0.4.", 18 P0.3/XTAL2 (io), 19 P0.2/XTAL1 (io), 20 P0.1 (io) "Port 0.1.", 21 GND (power) "This ground connection is required. The center  pad may optionally be connected to ground as  well on the QFN-20 packages."

## C8051F801-GU
designator U?
Mixed Signal ISP Flash MCU Family, 25 MHz, 0.5 kB RAM, 16 kB Flash, -40 to 85 degC, 24-pin SOP; Manufacturer: Silicon Labs; PartNumber: C8051F801-GU; ADC 1: 10-bit, 16-ch., 500 ksps; AEC-Q100: FALSE; Comparators: 1; Debug Interface: C2; Dig I/O Pins: 17; Flash: 16 kB; Internal Osc. Accuracy: +/-2%; MCU Core: 8051; MHz: 25; PCA Channels: 3; RAM: 0.5 kB; Temp Sensor: TRUE; Sub-Family: Capacitive Touch Sense MCUs; DatasheetVersion: Rev. 1.0; PackageReference: QSOP-24; PackageDescription: 24-Pin Quarter-Size Small-Outline Package, Body 8.65 x 3.9 mm, Pitch 0.635 mm; Supplier 1: Digi-Key; Supplier Part Number 1: 336-1769-5-ND; Supplier 2: Mouser; Supplier Part Number 2: 634-C8051F801-GU; Timers (16-bit): 3; Mounting Technology: Surface Mount; Code_JEDEC: MO-147; Code_IPC: J-STD-020; ComponentLink1Description: Manufacturer URL; ComponentLink1URL: http://www.silabs.com/; ComponentLink2Description: Datasheet; ComponentLink2URL: http://www.silabs.com/Support Documents/TechnicalDocs/C8051F80x-83x.pdf; ComponentLink3Description: Package Specification; ComponentLink3URL: http://www.silabs.com/Support%20Documents/TechnicalDocs/C8051F99x.pdf
footprint SLAB-QSOP-24_N (SOP, 24-Leads, Body 8.65x3.9mm, Pitch 0.635mm, IPC Medium Density)
footprint SLAB-QSOP-24_L (SOP, 24-Leads, Body 8.65x3.9mm, Pitch 0.635mm, IPC High Density)
footprint SLAB-QSOP-24_M (SOP, 24-Leads, Body 8.65x3.9mm, Pitch 0.635mm, IPC Low Density)
pins: 1 NC "No Connection.", 2 P0.2/XTAL1 (io), 3 P0.1 (io) "Port 0.1.", 4 P0.0/VREF (io), 5 GND (power) "Ground. This ground connection is required. The center pad may optionally be connected to ground as well on the QFN-20 packages.", 6 VDD (power) "Power Supply Voltage.", 7 ~{RST}/C2CK (io), 8 P2.0/C2D (io), 9 P1.7 (io) "Port 1.7.", 10 P1.6 (io) "Port 1.6.", 11 P1.5 (io) "Port 1.5.", 12 NC "No Connection.", 13 NC "No Connection.", 14 P1.4 (io) "Port 1.4.", 15 P1.3 (io) "Port 1.3.", 16 P1.2 (io) "Port 1.2.", 17 P1.1 (io) "Port 1.1.", 18 P1.0 (io) "Port 1.0.", 19 P0.7 (io) "Port 0.7.", 20 P0.6/CNVSTR (io), 21 P0.5 (io) "Port 0.5.", 22 P0.4 (io) "Port 0.4.", 23 P0.3/XTAL2 (io), 24 NC "No Connection."

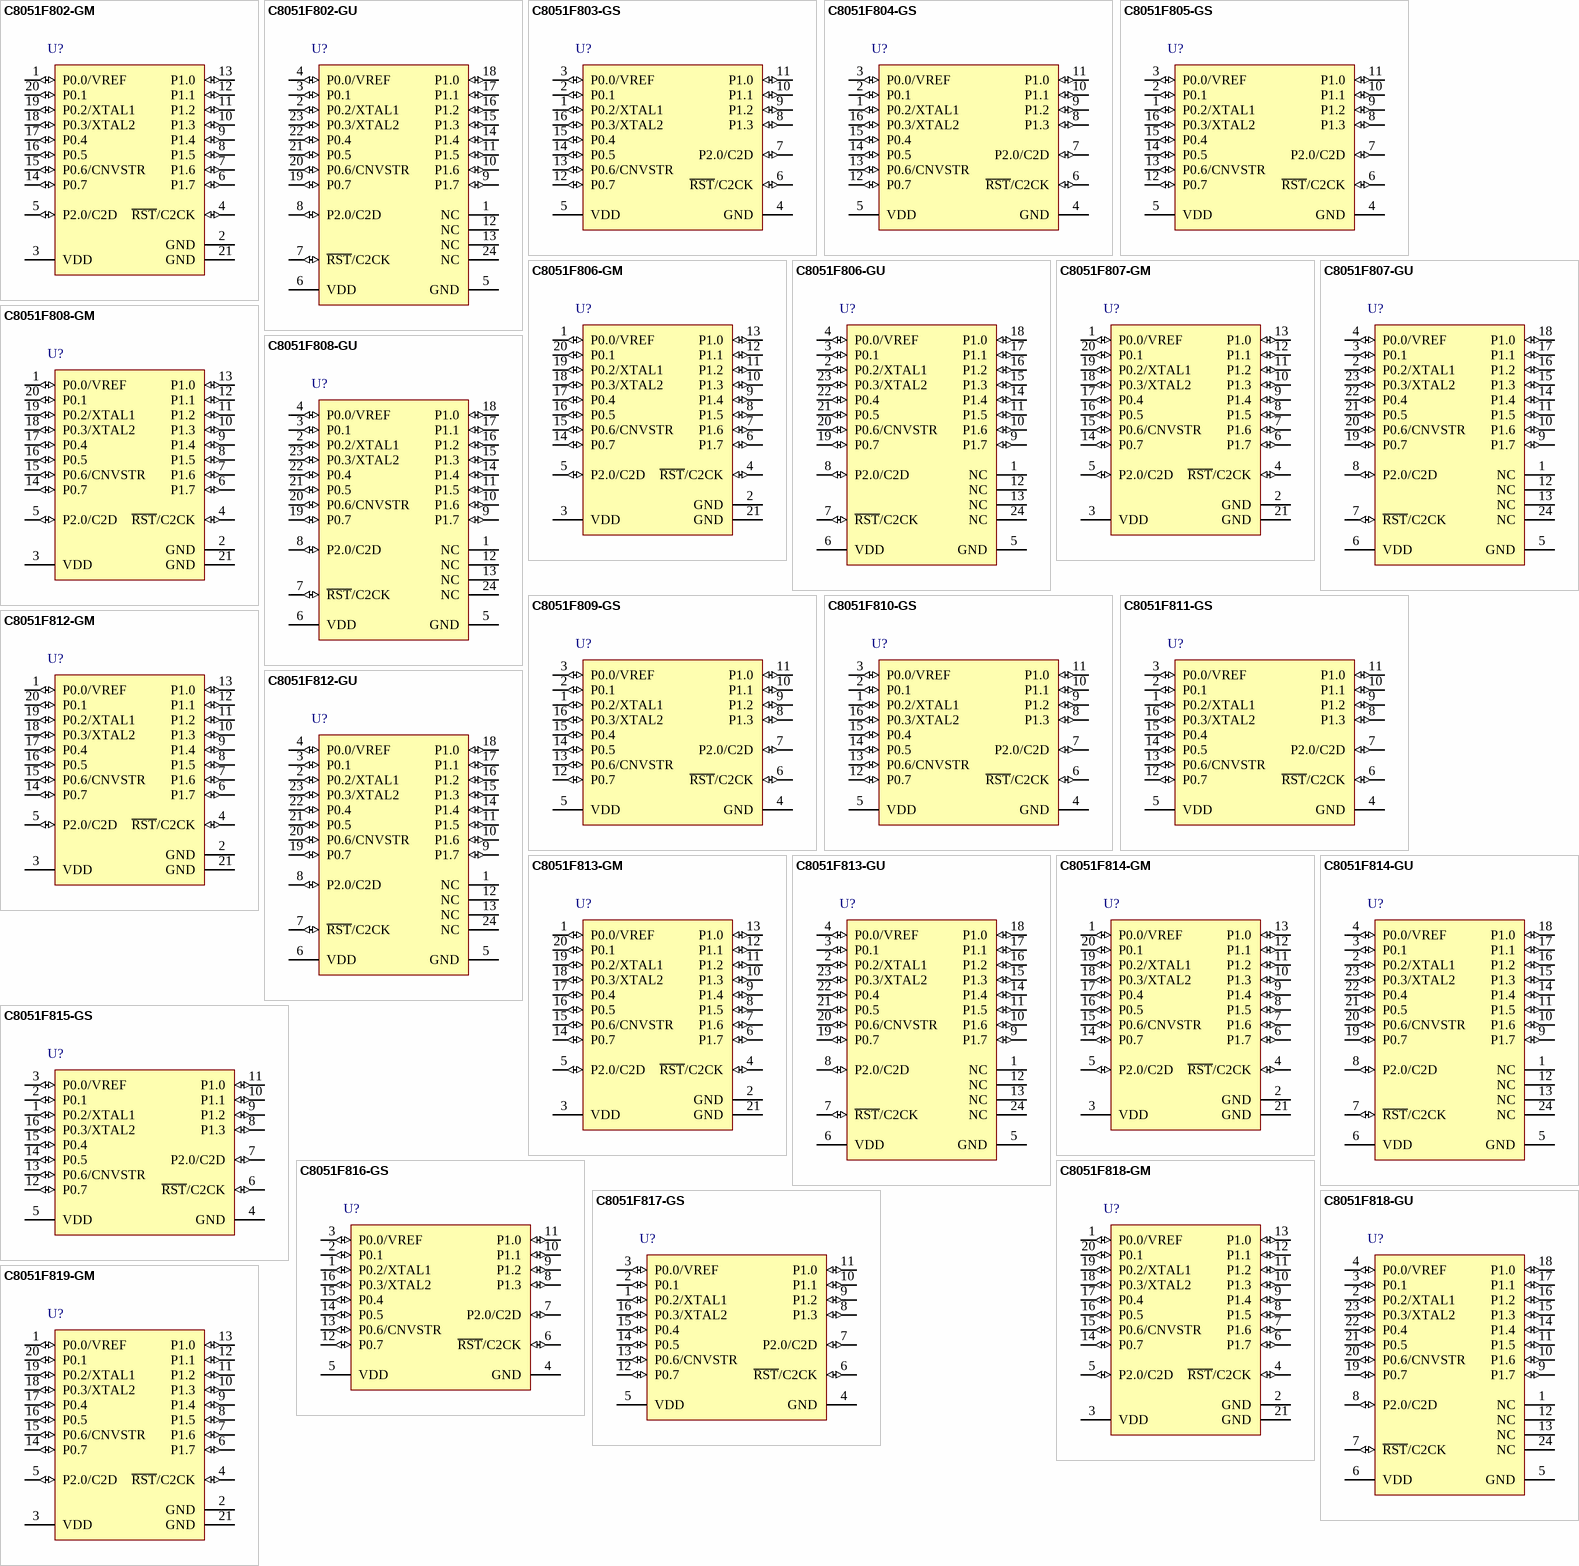
[diagram p2: symbols C8051F802-GM to C8051F819-GM]

## C8051F802-GM
designator U?
Mixed Signal ISP Flash MCU Family, 25 MHz, 0.5 kB RAM, 16 kB Flash, -40 to 85 degC, 20-pin QFN; Manufacturer: Silicon Labs; PartNumber: C8051F802-GM; ADC 1: 10-bit, 16-ch., 500 ksps; AEC-Q100: FALSE; Comparators: 1; Debug Interface: C2; Dig I/O Pins: 17; Flash: 16 kB; Internal Osc. Accuracy: +/-2%; MCU Core: 8051; MHz: 25; PCA Channels: 3; RAM: 0.5 kB; Temp Sensor: TRUE; Sub-Family: Capacitive Touch Sense MCUs; DatasheetVersion: Rev. 1.0; PackageReference: QFN-20; PackageDescription: 20-Pin Quad-Flat No-Leads Package, Body 4 x 4 mm, Pitch 0.5 mm; Supplier 1: Digi-Key; Supplier Part Number 1: 336-1770-5-ND; Supplier 2: Mouser; Supplier Part Number 2: 634-C8051F802-GM; Timers (16-bit): 3; Mounting Technology: Surface Mount; Code_JEDEC: MO-220; Code_IPC: J-STD-020; ComponentLink1Description: Manufacturer URL; ComponentLink1URL: http://www.silabs.com/; ComponentLink2Description: Datasheet; ComponentLink2URL: http://www.silabs.com/Support Documents/TechnicalDocs/C8051F80x-83x.pdf; ComponentLink3Description: Package Specification; ComponentLink3URL: http://www.silabs.com/Support%20Documents/TechnicalDocs/C8051F80x-83x.pdf
footprint SLAB-QFN-20-2125x2125TP_N (QFN, 20-Leads, Body 4x4mm, Pitch 0.5mm, Thermal Pad 2.13x2.13mm, IPC Medium Density)
footprint SLAB-QFN-20-2125x2125TP_L (QFN, 20-Leads, Body 4x4mm, Pitch 0.5mm, Thermal Pad 2.13x2.13mm, IPC High Density)
footprint SLAB-QFN-20-2125x2125TP_M (QFN, 20-Leads, Body 4x4mm, Pitch 0.5mm, Thermal Pad 2.13x2.13mm, IPC Low Density)
pins: 1 P0.0/VREF (io), 2 GND (power) "Ground.", 3 VDD (power) "Power Supply Voltage.", 4 ~{RST}/C2CK (io), 5 P2.0/C2D (io), 6 P1.7 (io) "Port 1.7.", 7 P1.6 (io) "Port 1.6.", 8 P1.5 (io) "Port 1.5.", 9 P1.4 (io) "Port 1.4.", 10 P1.3 (io) "Port 1.3.", 11 P1.2 (io) "Port 1.2.", 12 P1.1 (io) "Port 1.1.", 13 P1.0 (io) "Port 1.0.", 14 P0.7 (io) "Port 0.7.", 15 P0.6/CNVSTR (io), 16 P0.5 (io) "Port 0.5.", 17 P0.4 (io) "Port 0.4.", 18 P0.3/XTAL2 (io), 19 P0.2/XTAL1 (io), 20 P0.1 (io) "Port 0.1.", 21 GND (power) "This ground connection is required. The center  pad may optionally be connected to ground as  well on the QFN-20 packages."